# EAGLE library part MK3DS1/4-3,81 (library untitled)
12-polige, dreistckige Reihenklemme im Raster 3.81mm Typ Phoenix MK3DS 1/4-3,81, Artikelnummer 1727751
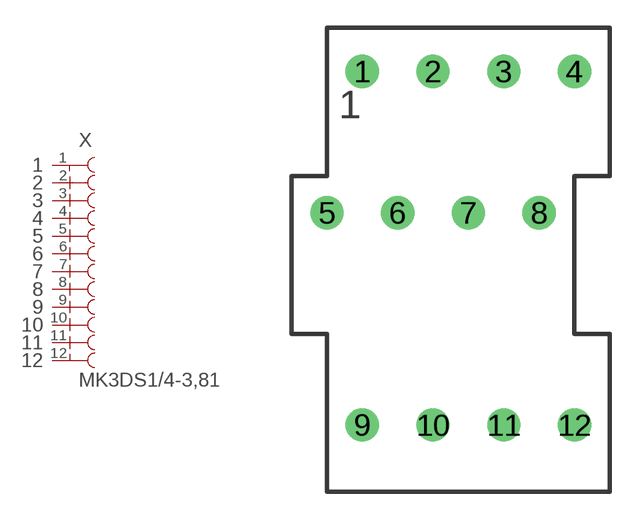
[diagram p2: symbol with the pads of MK3DS1/4; footprint MK3DS1/4]

Designator prefix X

## MK3DS1/4-3,81  [MK3DS1/4]
1  1  pas
2  2  pas
3  3  pas
4  4  pas
5  5  pas
6  6  pas
7  7  pas
8  8  pas
9  9  pas
10  10  pas
11  11  pas
12  12  pas

## Footprint MK3DS1/4 (pad centres in mm)
12-polige, dreistckige Reihenklemme Phoenix MK3DS1/4
drill 1.194 pad 1.778 round: 1 0,19.05; 2 3.81,19.05; 3 7.62,19.05; 4 11.43,19.05; 5 -1.905,11.43; 6 1.905,11.43; 7 5.715,11.43; 8 9.525,11.43; 9 0,0; 10 3.81,0; 11 7.62,0; 12 11.43,0